# Altium integrated library TI Data Converters Analog to Digital Converter.IntLib: 2197 symbols (part 22 of 168)
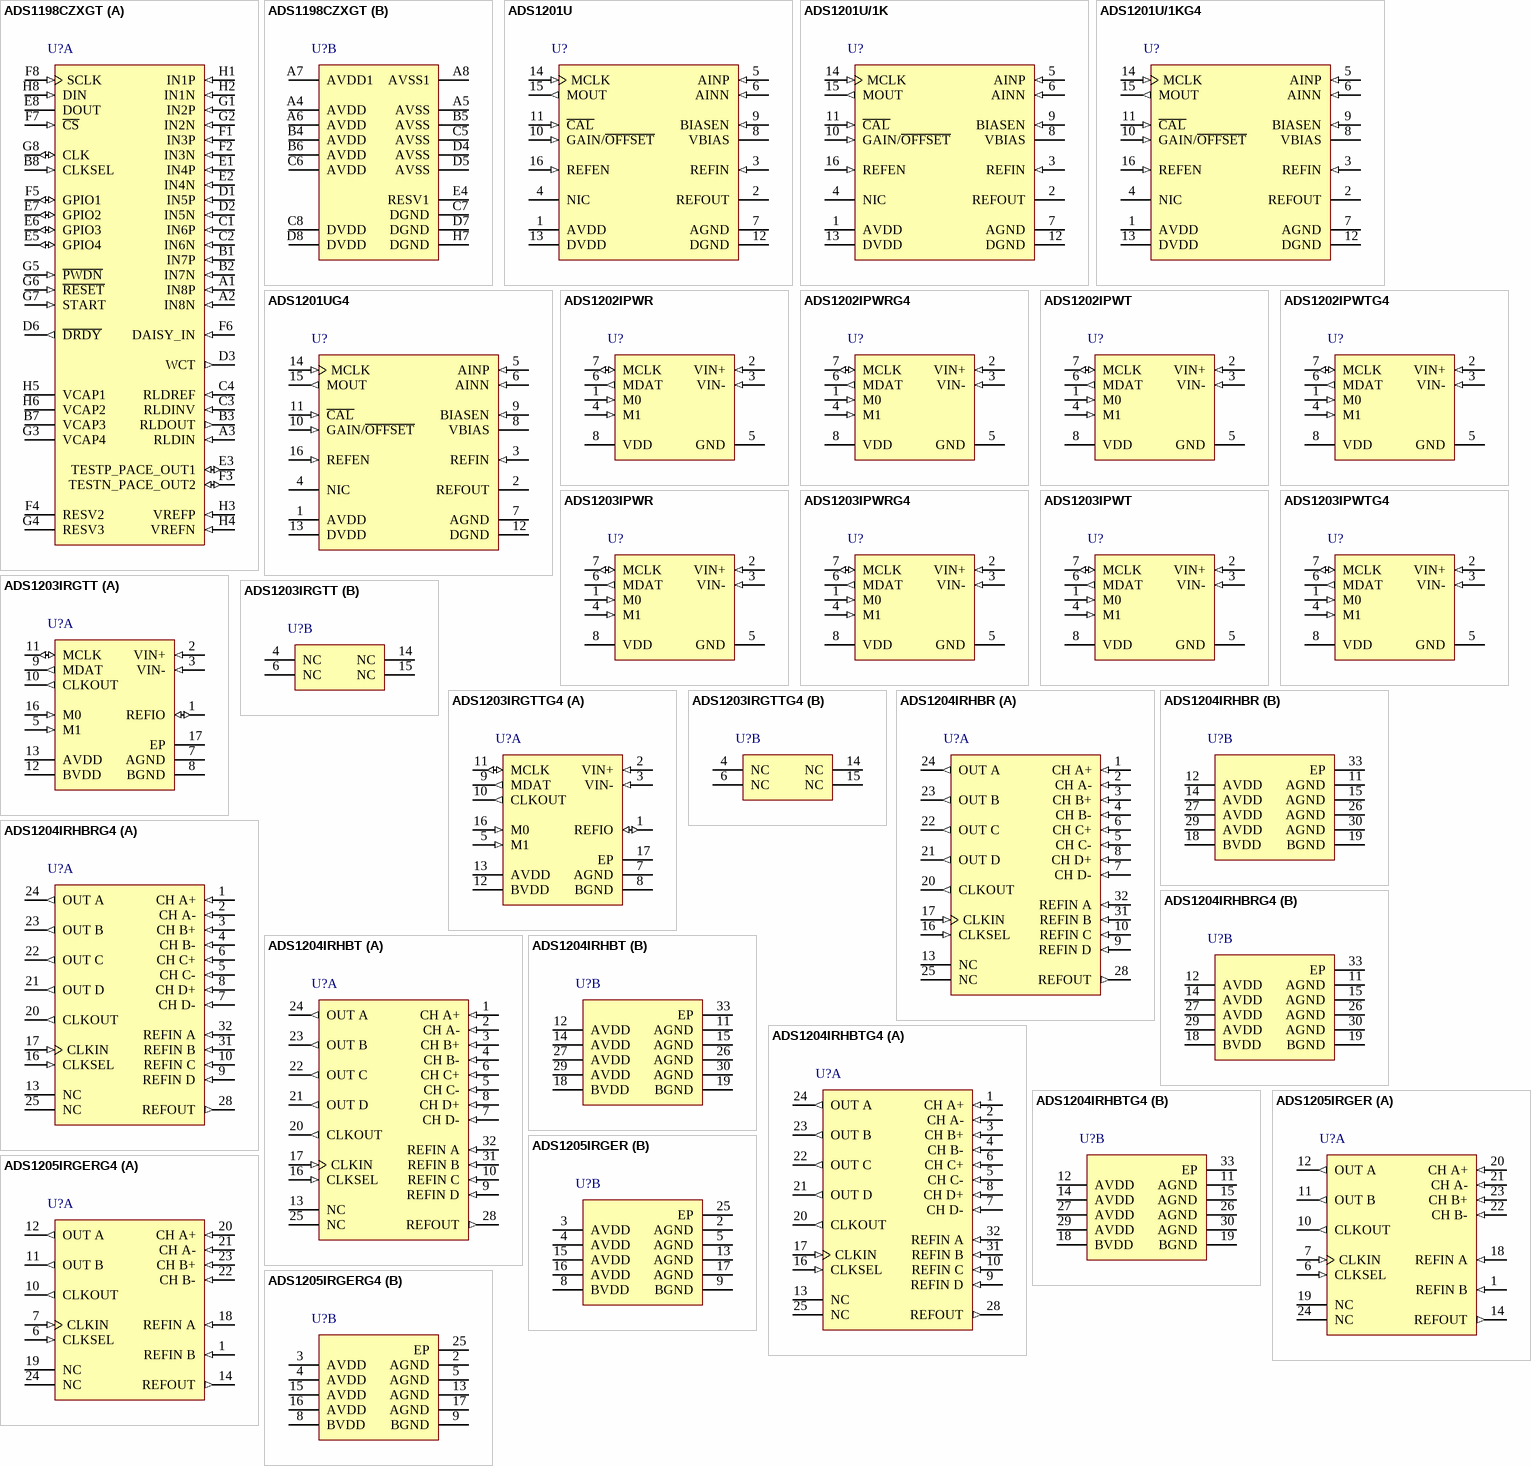
[diagram p147: symbols ADS1198CZXGT to ADS1205IRGERG4]

## ADS1203IPWR
designator U?
Current Shunt Delta-Sigma Modulator, 10 MHz CLK, + / - 250 mV Input, 16-Bit Resolution, -40 to 125 degC, 8-pin SOP (PW8), Green (RoHS & no Sb/Br); Manufacturer: Texas Instruments; PartNumber: ADS1203IPWR; # Input Channels: 1; Analog Voltage AV/DD(Max)(V): 5.5; Analog Voltage AV/DD(Min)(V): 4.5; Architecture: Delta-Sigma, Modulator; INL(Max)(+/-LSB): 4; Resolution(Bits): 16; Sample Rate (max)(SPS): 40k; SFDR(dB): 95; SINAD(dB): 85; SubFamily: Precision ADC (<=10MSPS); DatasheetVersion: SBAS318C; PackageVersion: 4040064-2/G, 02/2011; PackageReference: PW8; PackageDescription: 8-Pin Plastic Small Outline, Body 4.4 x 3 mm, Pitch 0.65 mm; Supplier 1: Digi-Key; Supplier Part Number 1: ADS8508IBDWR-ND; Supplier 2: Mouser; Supplier Part Number 2: 595-ADS8508IBDWR; Digital Supply(Max)(V): 5.5; Digital Supply(Min)(V): 4.5; Eco-Plan: Green (RoHS & no Sb/Br); SNR(dB): 85; Mounting Technology: Surface Mount; Code_JEDEC: MO-153; ComponentLink1Description: Manufacturer URL; ComponentLink1URL: http://www.ti.com/; ComponentLink2Description: Datasheet; ComponentLink2URL: http://www.ti.com/general/docs/lit/getliterature.tsp?genericPartNumber=ADS1203&fileType=pdf; ComponentLink3Description: Package Specification; ComponentLink3URL: http://www.ti.com/litv/pdf/mtss001d
footprint TI-PW8_N (SOP, 8-Leads, Body 4.4x3mm, Pitch 0.65mm, IPC Medium Density)
footprint TI-PW8_L (SOP, 8-Leads, Body 4.4x3mm, Pitch 0.65mm, IPC High Density)
footprint TI-PW8_M (SOP, 8-Leads, Body 4.4x3mm, Pitch 0.65mm, IPC Low Density)
pins: 1 M0 (in) "Mode input", 2 VIN+ (in) "Noninverting analog input", 3 VIN- (in) "Inverting analog input", 4 M1 (in) "Mode input", 5 GND (power) "Power supply ground", 6 MDAT (out) "Modulator data output", 7 MCLK (io) "Modulator clock input or output", 8 VDD (power) "Power supply: +5V nominal"

## ADS1203IPWRG4
designator U?
Current Shunt Delta-Sigma Modulator, 10 MHz CLK, + / - 250 mV Input, 16-Bit Resolution, -40 to 125 degC, 8-pin SOP (PW8), Green (RoHS & no Sb/Br); Manufacturer: Texas Instruments; PartNumber: ADS1203IPWRG4; # Input Channels: 1; Analog Voltage AV/DD(Max)(V): 5.5; Analog Voltage AV/DD(Min)(V): 4.5; Architecture: Delta-Sigma, Modulator; INL(Max)(+/-LSB): 4; Resolution(Bits): 16; Sample Rate (max)(SPS): 40k; SFDR(dB): 95; SINAD(dB): 85; SubFamily: Precision ADC (<=10MSPS); DatasheetVersion: SBAS318C; PackageVersion: 4040064-2/G, 02/2011; PackageReference: PW8; PackageDescription: 8-Pin Plastic Small Outline, Body 4.4 x 3 mm, Pitch 0.65 mm; Supplier 1: Digi-Key; Supplier Part Number 1: ADS8508IBDWRG4-ND; Supplier 2: Mouser; Supplier Part Number 2: 595-ADS8508IBDWRG4; Digital Supply(Max)(V): 5.5; Digital Supply(Min)(V): 4.5; Eco-Plan: Green (RoHS & no Sb/Br); SNR(dB): 85; Mounting Technology: Surface Mount; Code_JEDEC: MO-153; ComponentLink1Description: Manufacturer URL; ComponentLink1URL: http://www.ti.com/; ComponentLink2Description: Datasheet; ComponentLink2URL: http://www.ti.com/general/docs/lit/getliterature.tsp?genericPartNumber=ADS1203&fileType=pdf; ComponentLink3Description: Package Specification; ComponentLink3URL: http://www.ti.com/litv/pdf/mtss001d
footprint TI-PW8_N (SOP, 8-Leads, Body 4.4x3mm, Pitch 0.65mm, IPC Medium Density)
footprint TI-PW8_L (SOP, 8-Leads, Body 4.4x3mm, Pitch 0.65mm, IPC High Density)
footprint TI-PW8_M (SOP, 8-Leads, Body 4.4x3mm, Pitch 0.65mm, IPC Low Density)
pins: 1 M0 (in) "Mode input", 2 VIN+ (in) "Noninverting analog input", 3 VIN- (in) "Inverting analog input", 4 M1 (in) "Mode input", 5 GND (power) "Power supply ground", 6 MDAT (out) "Modulator data output", 7 MCLK (io) "Modulator clock input or output", 8 VDD (power) "Power supply: +5V nominal"

## ADS1203IPWT
designator U?
Current Shunt Delta-Sigma Modulator, 10 MHz CLK, + / - 250 mV Input, 16-Bit Resolution, -40 to 125 degC, 8-pin SOP (PW8), Green (RoHS & no Sb/Br); Manufacturer: Texas Instruments; PartNumber: ADS1203IPWT; # Input Channels: 1; Analog Voltage AV/DD(Max)(V): 5.5; Analog Voltage AV/DD(Min)(V): 4.5; Architecture: Delta-Sigma, Modulator; INL(Max)(+/-LSB): 4; Resolution(Bits): 16; Sample Rate (max)(SPS): 40k; SFDR(dB): 95; SINAD(dB): 85; SubFamily: Precision ADC (<=10MSPS); DatasheetVersion: SBAS318C; PackageVersion: 4040064-2/G, 02/2011; PackageReference: PW8; PackageDescription: 8-Pin Plastic Small Outline, Body 4.4 x 3 mm, Pitch 0.65 mm; Supplier 1: Digi-Key; Supplier Part Number 1: 296-18085-5-ND; Supplier 2: Newark; Supplier Part Number 2: 43K2924; Supplier 3: Mouser; Supplier Part Number 3: 595-ADS8509IBDW; Digital Supply(Max)(V): 5.5; Digital Supply(Min)(V): 4.5; Eco-Plan: Green (RoHS & no Sb/Br); SNR(dB): 85; Mounting Technology: Surface Mount; Code_JEDEC: MO-153; ComponentLink1Description: Manufacturer URL; ComponentLink1URL: http://www.ti.com/; ComponentLink2Description: Datasheet; ComponentLink2URL: http://www.ti.com/general/docs/lit/getliterature.tsp?genericPartNumber=ADS1203&fileType=pdf; ComponentLink3Description: Package Specification; ComponentLink3URL: http://www.ti.com/litv/pdf/mtss001d
footprint TI-PW8_N (SOP, 8-Leads, Body 4.4x3mm, Pitch 0.65mm, IPC Medium Density)
footprint TI-PW8_L (SOP, 8-Leads, Body 4.4x3mm, Pitch 0.65mm, IPC High Density)
footprint TI-PW8_M (SOP, 8-Leads, Body 4.4x3mm, Pitch 0.65mm, IPC Low Density)
pins: 1 M0 (in) "Mode input", 2 VIN+ (in) "Noninverting analog input", 3 VIN- (in) "Inverting analog input", 4 M1 (in) "Mode input", 5 GND (power) "Power supply ground", 6 MDAT (out) "Modulator data output", 7 MCLK (io) "Modulator clock input or output", 8 VDD (power) "Power supply: +5V nominal"

## ADS1203IPWTG4
designator U?
Current Shunt Delta-Sigma Modulator, 10 MHz CLK, + / - 250 mV Input, 16-Bit Resolution, -40 to 125 degC, 8-pin SOP (PW8), Green (RoHS & no Sb/Br); Manufacturer: Texas Instruments; PartNumber: ADS1203IPWTG4; # Input Channels: 1; Analog Voltage AV/DD(Max)(V): 5.5; Analog Voltage AV/DD(Min)(V): 4.5; Architecture: Delta-Sigma, Modulator; INL(Max)(+/-LSB): 4; Resolution(Bits): 16; Sample Rate (max)(SPS): 40k; SFDR(dB): 95; SINAD(dB): 85; SubFamily: Precision ADC (<=10MSPS); DatasheetVersion: SBAS318C; PackageVersion: 4040064-2/G, 02/2011; PackageReference: PW8; PackageDescription: 8-Pin Plastic Small Outline, Body 4.4 x 3 mm, Pitch 0.65 mm; Supplier 1: Digi-Key; Supplier Part Number 1: ADS8509IBDWG4-ND; Supplier 2: Farnell; Supplier Part Number 2: 1390677; Supplier 3: Newark; Supplier Part Number 3: 61M4842; Supplier 4: Mouser; Supplier Part Number 4: 595-ADS8509IBDWG4; Digital Supply(Max)(V): 5.5; Digital Supply(Min)(V): 4.5; Eco-Plan: Green (RoHS & no Sb/Br); SNR(dB): 85; Mounting Technology: Surface Mount; Code_JEDEC: MO-153; ComponentLink1Description: Manufacturer URL; ComponentLink1URL: http://www.ti.com/; ComponentLink2Description: Datasheet; ComponentLink2URL: http://www.ti.com/general/docs/lit/getliterature.tsp?genericPartNumber=ADS1203&fileType=pdf; ComponentLink3Description: Package Specification; ComponentLink3URL: http://www.ti.com/litv/pdf/mtss001d
footprint TI-PW8_N (SOP, 8-Leads, Body 4.4x3mm, Pitch 0.65mm, IPC Medium Density)
footprint TI-PW8_L (SOP, 8-Leads, Body 4.4x3mm, Pitch 0.65mm, IPC High Density)
footprint TI-PW8_M (SOP, 8-Leads, Body 4.4x3mm, Pitch 0.65mm, IPC Low Density)
pins: 1 M0 (in) "Mode input", 2 VIN+ (in) "Noninverting analog input", 3 VIN- (in) "Inverting analog input", 4 M1 (in) "Mode input", 5 GND (power) "Power supply ground", 6 MDAT (out) "Modulator data output", 7 MCLK (io) "Modulator clock input or output", 8 VDD (power) "Power supply: +5V nominal"

## ADS1203IRGTT
designator U?
Current Shunt Delta-Sigma Modulator, 10 MHz CLK, + / - 250 mV Input, 16-Bit Resolution, -40 to 125 degC, 16-pin QFN (RGT16), Green (RoHS & no Sb/Br); Manufacturer: Texas Instruments; PartNumber: ADS1203IRGTT; # Input Channels: 1; Analog Voltage AV/DD(Max)(V): 5.5; Analog Voltage AV/DD(Min)(V): 4.5; Architecture: Delta-Sigma, Modulator; ENOB(Bits): 16; INL(Max)(+/-LSB): 4; Sample Rate (max)(SPS): 40k; SFDR(dB): 95; SINAD(dB): 85; SubFamily: Precision ADC (<=10MSPS); DatasheetVersion: SBAS318C; PackageVersion: 4203495/H, 10/2011; PackageReference: RGT16-1650X1650TP; PackageDescription: 16-Pin Plastic Flat Pack, Body 3 x 3 mm, Pitch 0.5 mm; Supplier 1: Digi-Key; Supplier Part Number 1: ADS8509IBDWR-ND; Supplier 2: Mouser; Supplier Part Number 2: 595-ADS8509IBDWR; Digital Supply(Max)(V): 5.5; Digital Supply(Min)(V): 4.5; Eco-Plan: Green (RoHS & no Sb/Br); Resolution(Bits): 16; SNR(dB): 85; Mounting Technology: Surface Mount; Code_JEDEC: MO-220; ComponentLink1Description: Manufacturer URL; ComponentLink1URL: http://www.ti.com/; ComponentLink2Description: Datasheet; ComponentLink2URL: http://www.ti.com/general/docs/lit/getliterature.tsp?genericPartNumber=ADS1203&fileType=pdf; ComponentLink3Description: Package Specification; ComponentLink3URL: http://www.ti.com/litv/pdf/mpqf119g
footprint TI-RGT16-1650X1650TP_V (QFN, 16-Leads, Body 3x3mm, Pitch 0.5mm, Thermal Pad 1.65x1.65mm)
part A pins: 1 REFIO (io) "Reference voltage input/output", 2 VIN+ (in) "Noninverting analog input", 3 VIN- (in) "Inverting analog input", 5 M1 (in) "Mode input", 7 AGND (power) "Analog power-supply ground", 8 BGND (power) "Interface power-supply ground", 9 MDAT (out) "Modulator data output", 10 CLKOUT (out) "Modulator clock output (Mode 3 only)", 11 MCLK (io) "Modulator clock input or output", 12 BVDD (power) "Interface power supply", 13 AVDD (power) "Analog power supply", 16 M0 (in) "Mode input", 17 EP (power)
part B pins: 4 NC "Not connected", 6 NC "Not connected", 14 NC "Not connected", 15 NC "Not connected"

## ADS1203IRGTTG4
designator U?
Current Shunt Delta-Sigma Modulator, 10 MHz CLK, + / - 250 mV Input, 16-Bit Resolution, -40 to 125 degC, 16-pin QFN (RGT16), Green (RoHS & no Sb/Br); Manufacturer: Texas Instruments; PartNumber: ADS1203IRGTTG4; # Input Channels: 1; Analog Voltage AV/DD(Max)(V): 5.5; Analog Voltage AV/DD(Min)(V): 4.5; Architecture: Delta-Sigma, Modulator; ENOB(Bits): 16; INL(Max)(+/-LSB): 4; Sample Rate (max)(SPS): 40k; SFDR(dB): 95; SINAD(dB): 85; SubFamily: Precision ADC (<=10MSPS); DatasheetVersion: SBAS318C; PackageVersion: 4203495/H, 10/2011; PackageReference: RGT16-1650X1650TP; PackageDescription: 16-Pin Plastic Flat Pack, Body 3 x 3 mm, Pitch 0.5 mm; Supplier 1: Digi-Key; Supplier Part Number 1: ADS8509IBDWRG4-ND; Supplier 2: Mouser; Supplier Part Number 2: 595-ADS8509IBDWRG4; Digital Supply(Max)(V): 5.5; Digital Supply(Min)(V): 4.5; Eco-Plan: Green (RoHS & no Sb/Br); Resolution(Bits): 16; SNR(dB): 85; Mounting Technology: Surface Mount; Code_JEDEC: MO-220; ComponentLink1Description: Manufacturer URL; ComponentLink1URL: http://www.ti.com/; ComponentLink2Description: Datasheet; ComponentLink2URL: http://www.ti.com/general/docs/lit/getliterature.tsp?genericPartNumber=ADS1203&fileType=pdf; ComponentLink3Description: Package Specification; ComponentLink3URL: http://www.ti.com/litv/pdf/mpqf119g
footprint TI-RGT16-1650X1650TP_V (QFN, 16-Leads, Body 3x3mm, Pitch 0.5mm, Thermal Pad 1.65x1.65mm)
part A pins: 1 REFIO (io) "Reference voltage input/output", 2 VIN+ (in) "Noninverting analog input", 3 VIN- (in) "Inverting analog input", 5 M1 (in) "Mode input", 7 AGND (power) "Analog power-supply ground", 8 BGND (power) "Interface power-supply ground", 9 MDAT (out) "Modulator data output", 10 CLKOUT (out) "Modulator clock output (Mode 3 only)", 11 MCLK (io) "Modulator clock input or output", 12 BVDD (power) "Interface power supply", 13 AVDD (power) "Analog power supply", 16 M0 (in) "Mode input", 17 EP (power)
part B pins: 4 NC "Not connected", 6 NC "Not connected", 14 NC "Not connected", 15 NC "Not connected"

## ADS1204IRHBR
designator U?
Four Delta-Sigma Modulator, 10 MHz CLK, 0 to 5 V Input, 16-Bit Resolution, -40 to 105 degC, 32-pin QFN (RHB32), Green (RoHS & no Sb/Br); Manufacturer: Texas Instruments; PartNumber: ADS1204IRHBR; # Input Channels: 4; Analog Voltage AV/DD(Max)(V): 5.5; Analog Voltage AV/DD(Min)(V): 4.5; Architecture: Delta-Sigma, Modulator; Digital Supply(Min)(V): 2.7; ENOB(Bits): 14.5; INL(Max)(+/-LSB): 3; Resolution(Bits): 16; Sample Rate (max)(SPS): 40k; SFDR(dB): 100; SINAD(dB): 89; SubFamily: Precision ADC (<=10MSPS); DatasheetVersion: SBAS301C; PackageVersion: 4204326/D, 06/2011; PackageReference: RHB32-3150X3150TP; PackageDescription: 32-Pin Plastic Flat Pack, Body 5 x 5 mm, Pitch 0.5 mm; Supplier 1: Digi-Key; Supplier Part Number 1: 296-18087-5-ND; Supplier 2: Newark; Supplier Part Number 2: 43K2928; Supplier 3: Mouser; Supplier Part Number 3: 595-ADS8509IDW; Digital Supply(Max)(V): 5.5; Eco-Plan: Green (RoHS & no Sb/Br); SNR(dB): 89; Mounting Technology: Surface Mount; Code_JEDEC: MO-220; ComponentLink1Description: Manufacturer URL; ComponentLink1URL: http://www.ti.com/; ComponentLink2Description: Datasheet; ComponentLink2URL: http://www.ti.com/general/docs/lit/getliterature.tsp?genericPartNumber=ADS1204&fileType=pdf; ComponentLink3Description: Package Specification; ComponentLink3URL: http://www.ti.com/lit/ml/mpqf130c/mpqf130c.pdf
footprint TI-RHB32-3150X3150TP_V (QFN, 32-Leads, Body 5x5mm, Pitch 0.5mm, Thermal Pad 3.15x3.15mm)
part A pins: 1 CH A+ (in) "Analog input of channel A: noninverting input", 2 CH A- (in) "Analog input of channel A: inverting input", 3 CH B+ (in) "Analog input of channel B: noninverting input", 4 CH B- (in) "Analog input of channel B: inverting input", 5 CH C- (in) "Analog input of channel C: inverting input", 6 CH C+ (in) "Analog input of channel C: noninverting input", 7 CH D- (in) "Analog input of channel D: inverting input", 8 CH D+ (in) "Analog input of channel D: noninverting input", 9 REFIN D (in) "Reference voltage input of channel D: pin for external reference voltage", 10 REFIN C (in) "Reference voltage input of channel C: pin for external reference voltage", 13 NC "No connection; this pin is left unconnected", 16 CLKSEL (in) "Clock select between internal clock (CLKSEL = 1) or external clock (CLKSEL = 0)", 17 CLKIN (in) "External clock input", 20 CLKOUT (out) "System clock output", 21 OUT D (out) "Bit stream from channel D modulator", 22 OUT C (out) "Bit stream from channel C modulator", 23 OUT B (out) "Bit stream from channel B modulator", 24 OUT A (out) "Bit stream from channel A modulator", 25 NC "No connection; this pin is left unconnected", 28 REFOUT (out) "Reference voltage output: output pin of the internal reference source; nominal 2.5V", 31 REFIN B (in) "Reference voltage input of channel B: pin for external reference voltage", 32 REFIN A (in) "Reference voltage input of channel A: pin for external reference voltage"
part B pins: 11 AGND (power) "Analog ground", 12 AVDD (power) "Analog power supply; nominal 5V", 14 AVDD (power) "Analog power supply; nominal 5V", 15 AGND (power) "Analog ground", 18 BVDD (power) "Digital interface power supply; from 2.7V to 5.5V", 19 BGND (power) "Interface ground", 26 AGND (power) "Analog ground", 27 AVDD (power) "Analog power supply; nominal 5V", 29 AVDD (power) "Analog power supply; nominal 5V", 30 AGND (power) "Analog ground", 33 EP (power)

## ADS1204IRHBRG4
designator U?
Four Delta-Sigma Modulator, 10 MHz CLK, 0 to 5 V Input, 16-Bit Resolution, -40 to 105 degC, 32-pin QFN (RHB32), Green (RoHS & no Sb/Br); Manufacturer: Texas Instruments; PartNumber: ADS1204IRHBRG4; # Input Channels: 4; Analog Voltage AV/DD(Max)(V): 5.5; Analog Voltage AV/DD(Min)(V): 4.5; Architecture: Delta-Sigma, Modulator; Digital Supply(Min)(V): 2.7; ENOB(Bits): 14.5; INL(Max)(+/-LSB): 3; Resolution(Bits): 16; Sample Rate (max)(SPS): 40k; SFDR(dB): 100; SINAD(dB): 89; SubFamily: Precision ADC (<=10MSPS); DatasheetVersion: SBAS301C; PackageVersion: 4204326/D, 06/2011; PackageReference: RHB32-3150X3150TP; PackageDescription: 32-Pin Plastic Flat Pack, Body 5 x 5 mm, Pitch 0.5 mm; Supplier 1: Digi-Key; Supplier Part Number 1: ADS8509IDWG4-ND; Supplier 2: Mouser; Supplier Part Number 2: 595-ADS8509IDWG4; Digital Supply(Max)(V): 5.5; Eco-Plan: Green (RoHS & no Sb/Br); SNR(dB): 89; Mounting Technology: Surface Mount; Code_JEDEC: MO-220; ComponentLink1Description: Manufacturer URL; ComponentLink1URL: http://www.ti.com/; ComponentLink2Description: Datasheet; ComponentLink2URL: http://www.ti.com/general/docs/lit/getliterature.tsp?genericPartNumber=ADS1204&fileType=pdf; ComponentLink3Description: Package Specification; ComponentLink3URL: http://www.ti.com/lit/ml/mpqf130c/mpqf130c.pdf
footprint TI-RHB32-3150X3150TP_V (QFN, 32-Leads, Body 5x5mm, Pitch 0.5mm, Thermal Pad 3.15x3.15mm)
part A pins: 1 CH A+ (in) "Analog input of channel A: noninverting input", 2 CH A- (in) "Analog input of channel A: inverting input", 3 CH B+ (in) "Analog input of channel B: noninverting input", 4 CH B- (in) "Analog input of channel B: inverting input", 5 CH C- (in) "Analog input of channel C: inverting input", 6 CH C+ (in) "Analog input of channel C: noninverting input", 7 CH D- (in) "Analog input of channel D: inverting input", 8 CH D+ (in) "Analog input of channel D: noninverting input", 9 REFIN D (in) "Reference voltage input of channel D: pin for external reference voltage", 10 REFIN C (in) "Reference voltage input of channel C: pin for external reference voltage", 13 NC "No connection; this pin is left unconnected", 16 CLKSEL (in) "Clock select between internal clock (CLKSEL = 1) or external clock (CLKSEL = 0)", 17 CLKIN (in) "External clock input", 20 CLKOUT (out) "System clock output", 21 OUT D (out) "Bit stream from channel D modulator", 22 OUT C (out) "Bit stream from channel C modulator", 23 OUT B (out) "Bit stream from channel B modulator", 24 OUT A (out) "Bit stream from channel A modulator", 25 NC "No connection; this pin is left unconnected", 28 REFOUT (out) "Reference voltage output: output pin of the internal reference source; nominal 2.5V", 31 REFIN B (in) "Reference voltage input of channel B: pin for external reference voltage", 32 REFIN A (in) "Reference voltage input of channel A: pin for external reference voltage"
part B pins: 11 AGND (power) "Analog ground", 12 AVDD (power) "Analog power supply; nominal 5V", 14 AVDD (power) "Analog power supply; nominal 5V", 15 AGND (power) "Analog ground", 18 BVDD (power) "Digital interface power supply; from 2.7V to 5.5V", 19 BGND (power) "Interface ground", 26 AGND (power) "Analog ground", 27 AVDD (power) "Analog power supply; nominal 5V", 29 AVDD (power) "Analog power supply; nominal 5V", 30 AGND (power) "Analog ground", 33 EP (power)

## ADS1204IRHBT
designator U?
Four Delta-Sigma Modulator, 10 MHz CLK, 0 to 5 V Input, 16-Bit Resolution, -40 to 105 degC, 32-pin QFN (RHB32), Green (RoHS & no Sb/Br); Manufacturer: Texas Instruments; PartNumber: ADS1204IRHBT; # Input Channels: 4; Analog Voltage AV/DD(Max)(V): 5.5; Analog Voltage AV/DD(Min)(V): 4.5; Architecture: Delta-Sigma, Modulator; Digital Supply(Min)(V): 2.7; ENOB(Bits): 14.5; INL(Max)(+/-LSB): 3; Resolution(Bits): 16; Sample Rate (max)(SPS): 40k; SFDR(dB): 100; SINAD(dB): 89; SubFamily: Precision ADC (<=10MSPS); DatasheetVersion: SBAS301C; PackageVersion: 4204326/D, 06/2011; PackageReference: RHB32-3150X3150TP; PackageDescription: 32-Pin Plastic Flat Pack, Body 5 x 5 mm, Pitch 0.5 mm; Supplier 1: Digi-Key; Supplier Part Number 1: ADS8509IDWR-ND; Supplier 2: Newark; Supplier Part Number 2: 43K2929; Supplier 3: Mouser; Supplier Part Number 3: 595-ADS8509IDWR; Digital Supply(Max)(V): 5.5; Eco-Plan: Green (RoHS & no Sb/Br); SNR(dB): 89; Mounting Technology: Surface Mount; Code_JEDEC: MO-220; ComponentLink1Description: Manufacturer URL; ComponentLink1URL: http://www.ti.com/; ComponentLink2Description: Datasheet; ComponentLink2URL: http://www.ti.com/general/docs/lit/getliterature.tsp?genericPartNumber=ADS1204&fileType=pdf; ComponentLink3Description: Package Specification; ComponentLink3URL: http://www.ti.com/lit/ml/mpqf130c/mpqf130c.pdf
footprint TI-RHB32-3150X3150TP_V (QFN, 32-Leads, Body 5x5mm, Pitch 0.5mm, Thermal Pad 3.15x3.15mm)
part A pins: 1 CH A+ (in) "Analog input of channel A: noninverting input", 2 CH A- (in) "Analog input of channel A: inverting input", 3 CH B+ (in) "Analog input of channel B: noninverting input", 4 CH B- (in) "Analog input of channel B: inverting input", 5 CH C- (in) "Analog input of channel C: inverting input", 6 CH C+ (in) "Analog input of channel C: noninverting input", 7 CH D- (in) "Analog input of channel D: inverting input", 8 CH D+ (in) "Analog input of channel D: noninverting input", 9 REFIN D (in) "Reference voltage input of channel D: pin for external reference voltage", 10 REFIN C (in) "Reference voltage input of channel C: pin for external reference voltage", 13 NC "No connection; this pin is left unconnected", 16 CLKSEL (in) "Clock select between internal clock (CLKSEL = 1) or external clock (CLKSEL = 0)", 17 CLKIN (in) "External clock input", 20 CLKOUT (out) "System clock output", 21 OUT D (out) "Bit stream from channel D modulator", 22 OUT C (out) "Bit stream from channel C modulator", 23 OUT B (out) "Bit stream from channel B modulator", 24 OUT A (out) "Bit stream from channel A modulator", 25 NC "No connection; this pin is left unconnected", 28 REFOUT (out) "Reference voltage output: output pin of the internal reference source; nominal 2.5V", 31 REFIN B (in) "Reference voltage input of channel B: pin for external reference voltage", 32 REFIN A (in) "Reference voltage input of channel A: pin for external reference voltage"
part B pins: 11 AGND (power) "Analog ground", 12 AVDD (power) "Analog power supply; nominal 5V", 14 AVDD (power) "Analog power supply; nominal 5V", 15 AGND (power) "Analog ground", 18 BVDD (power) "Digital interface power supply; from 2.7V to 5.5V", 19 BGND (power) "Interface ground", 26 AGND (power) "Analog ground", 27 AVDD (power) "Analog power supply; nominal 5V", 29 AVDD (power) "Analog power supply; nominal 5V", 30 AGND (power) "Analog ground", 33 EP (power)

## ADS1204IRHBTG4
designator U?
Four Delta-Sigma Modulator, 10 MHz CLK, 0 to 5 V Input, 16-Bit Resolution, -40 to 105 degC, 32-pin QFN (RHB32), Green (RoHS & no Sb/Br); Manufacturer: Texas Instruments; PartNumber: ADS1204IRHBTG4; # Input Channels: 4; Analog Voltage AV/DD(Max)(V): 5.5; Analog Voltage AV/DD(Min)(V): 4.5; Architecture: Delta-Sigma, Modulator; Digital Supply(Min)(V): 2.7; ENOB(Bits): 14.5; INL(Max)(+/-LSB): 3; Resolution(Bits): 16; Sample Rate (max)(SPS): 40k; SFDR(dB): 100; SINAD(dB): 89; SubFamily: Precision ADC (<=10MSPS); DatasheetVersion: SBAS301C; PackageVersion: 4204326/D, 06/2011; PackageReference: RHB32-3150X3150TP; PackageDescription: 32-Pin Plastic Flat Pack, Body 5 x 5 mm, Pitch 0.5 mm; Supplier 1: Digi-Key; Supplier Part Number 1: ADS8509IDWRG4-ND; Supplier 2: Newark; Supplier Part Number 2: 60K8832; Supplier 3: Mouser; Supplier Part Number 3: 595-ADS8509IDWRG4; Digital Supply(Max)(V): 5.5; Eco-Plan: Green (RoHS & no Sb/Br); SNR(dB): 89; Mounting Technology: Surface Mount; Code_JEDEC: MO-220; ComponentLink1Description: Manufacturer URL; ComponentLink1URL: http://www.ti.com/; ComponentLink2Description: Datasheet; ComponentLink2URL: http://www.ti.com/general/docs/lit/getliterature.tsp?genericPartNumber=ADS1204&fileType=pdf; ComponentLink3Description: Package Specification; ComponentLink3URL: http://www.ti.com/lit/ml/mpqf130c/mpqf130c.pdf
footprint TI-RHB32-3150X3150TP_V (QFN, 32-Leads, Body 5x5mm, Pitch 0.5mm, Thermal Pad 3.15x3.15mm)
part A pins: 1 CH A+ (in) "Analog input of channel A: noninverting input", 2 CH A- (in) "Analog input of channel A: inverting input", 3 CH B+ (in) "Analog input of channel B: noninverting input", 4 CH B- (in) "Analog input of channel B: inverting input", 5 CH C- (in) "Analog input of channel C: inverting input", 6 CH C+ (in) "Analog input of channel C: noninverting input", 7 CH D- (in) "Analog input of channel D: inverting input", 8 CH D+ (in) "Analog input of channel D: noninverting input", 9 REFIN D (in) "Reference voltage input of channel D: pin for external reference voltage", 10 REFIN C (in) "Reference voltage input of channel C: pin for external reference voltage", 13 NC "No connection; this pin is left unconnected", 16 CLKSEL (in) "Clock select between internal clock (CLKSEL = 1) or external clock (CLKSEL = 0)", 17 CLKIN (in) "External clock input", 20 CLKOUT (out) "System clock output", 21 OUT D (out) "Bit stream from channel D modulator", 22 OUT C (out) "Bit stream from channel C modulator", 23 OUT B (out) "Bit stream from channel B modulator", 24 OUT A (out) "Bit stream from channel A modulator", 25 NC "No connection; this pin is left unconnected", 28 REFOUT (out) "Reference voltage output: output pin of the internal reference source; nominal 2.5V", 31 REFIN B (in) "Reference voltage input of channel B: pin for external reference voltage", 32 REFIN A (in) "Reference voltage input of channel A: pin for external reference voltage"
part B pins: 11 AGND (power) "Analog ground", 12 AVDD (power) "Analog power supply; nominal 5V", 14 AVDD (power) "Analog power supply; nominal 5V", 15 AGND (power) "Analog ground", 18 BVDD (power) "Digital interface power supply; from 2.7V to 5.5V", 19 BGND (power) "Interface ground", 26 AGND (power) "Analog ground", 27 AVDD (power) "Analog power supply; nominal 5V", 29 AVDD (power) "Analog power supply; nominal 5V", 30 AGND (power) "Analog ground", 33 EP (power)

## ADS1205IRGER
designator U?
Two 1-Bit, 10 MHz, 2nd-Order, Delta-Sigma Modulator ADC, -40 to 85 degC, 24-pin QFN (RGE24), Green (RoHS & no Sb/Br); Manufacturer: Texas Instruments; PartNumber: ADS1205IRGER; # Input Channels: 2; Analog Voltage AV/DD(Max)(V): 5.5; Analog Voltage AV/DD(Min)(V): 4.5; Architecture: Delta-Sigma, Modulator; Digital Supply(Min)(V): 2.7; ENOB(Bits): 14.5; INL(Max)(+/-LSB): 3; Resolution(Bits): 16; Sample Rate (max)(SPS): 40k; SFDR(dB): 98; SINAD(dB): 88.2; SNR(dB): 88.9; SubFamily: Precision ADC (<=10MSPS); DatasheetVersion: SBAS312B; PackageVersion: 4204104/G, 07/2011; PackageReference: RGE24-2450X2450TP-0407; PackageDescription: 24-Pin Plastic Flat Pack, Body 4 x 4 mm, Pitch 0.5 mm; Supplier 1: Digi-Key; Supplier Part Number 1: 296-18138-2-ND; Supplier 2: Digi-Key; Supplier Part Number 2: 296-18138-1-ND; Supplier 3: Digi-Key; Supplier Part Number 3: 296-18138-6-ND; Supplier 4: Mouser; Supplier Part Number 4: 595-TLC1543QDWREP; Digital Supply(Max)(V): 5.5; Eco-Plan: Green (RoHS & no Sb/Br); Mounting Technology: Surface Mount; Code_JEDEC: MO-220; ComponentLink1Description: Manufacturer URL; ComponentLink1URL: http://www.ti.com/; ComponentLink2Description: Datasheet; ComponentLink2URL: http://www.ti.com/general/docs/lit/getliterature.tsp?genericPartNumber=ADS1205&fileType=pdf; ComponentLink3Description: Package Specification; ComponentLink3URL: http://www.ti.com/litv/pdf/mpqf124f
footprint TI-RGE24-2450X2450TP-0407_V (QFN, 24-Leads, Body 4x4mm, Pitch 0.5mm, Thermal Pad 2.45x2.45mm, TI Recommended)
part A pins: 1 REFIN B (in) "Reference voltage input of channel B: pin for external reference voltage", 6 CLKSEL (in) "Clock select between internal clock (CLKSEL = 1) or external clock (CLKSEL = 0)", 7 CLKIN (in) "External clock input", 10 CLKOUT (out) "System clock output", 11 OUT B (out) "Bit stream from channel B modulator", 12 OUT A (out) "Bit stream from channel A modulator", 14 REFOUT (out) "Reference voltage output: output pin of the internal reference source; nominal 2.5V", 18 REFIN A (in) "Reference voltage input of channel A: pin for external reference voltage", 19 NC "No connection; this pin is left unconnected", 20 CH A+ (in) "Analog input of channel A: noninverting input", 21 CH A- (in) "Analog input of channel A: inverting input", 22 CH B- (in) "Analog input of channel B: inverting input", 23 CH B+ (in) "Analog input of channel B: noninverting input", 24 NC "No connection; this pin is left unconnected"
part B pins: 2 AGND (power) "Analog ground", 3 AVDD (power) "Analog power supply; nominal 5V", 4 AVDD (power) "Analog power supply; nominal 5V", 5 AGND (power) "Analog ground", 8 BVDD (power) "Digital interface power supply; from 2.7V to 5.5V", 9 BGND (power) "Interface ground", 13 AGND (power) "Analog ground", 15 AVDD (power) "Analog power supply; nominal 5V", 16 AVDD (power) "Analog power supply; nominal 5V", 17 AGND (power) "Analog ground", 25 EP "Exposed Pad"

## ADS1205IRGERG4
designator U?
Two 1-Bit, 10 MHz, 2nd-Order, Delta-Sigma Modulator ADC, -40 to 85 degC, 24-pin QFN (RGE24), Green (RoHS & no Sb/Br); Manufacturer: Texas Instruments; PartNumber: ADS1205IRGERG4; # Input Channels: 2; Analog Voltage AV/DD(Max)(V): 5.5; Analog Voltage AV/DD(Min)(V): 4.5; Architecture: Delta-Sigma, Modulator; Digital Supply(Min)(V): 2.7; ENOB(Bits): 14.5; INL(Max)(+/-LSB): 3; Resolution(Bits): 16; Sample Rate (max)(SPS): 40k; SFDR(dB): 98; SINAD(dB): 88.2; SNR(dB): 88.9; SubFamily: Precision ADC (<=10MSPS); DatasheetVersion: SBAS312B; PackageVersion: 4204104/G, 07/2011; PackageReference: RGE24-2450X2450TP-0407; PackageDescription: 24-Pin Plastic Flat Pack, Body 4 x 4 mm, Pitch 0.5 mm; Supplier 1: Newark; Supplier Part Number 1: 46M1597; Supplier 2: Mouser; Supplier Part Number 2: 595-V62/04647-01XE; Digital Supply(Max)(V): 5.5; Eco-Plan: Green (RoHS & no Sb/Br); Mounting Technology: Surface Mount; Code_JEDEC: MO-220; ComponentLink1Description: Manufacturer URL; ComponentLink1URL: http://www.ti.com/; ComponentLink2Description: Datasheet; ComponentLink2URL: http://www.ti.com/general/docs/lit/getliterature.tsp?genericPartNumber=ADS1205&fileType=pdf; ComponentLink3Description: Package Specification; ComponentLink3URL: http://www.ti.com/litv/pdf/mpqf124f
footprint TI-RGE24-2450X2450TP-0407_V (QFN, 24-Leads, Body 4x4mm, Pitch 0.5mm, Thermal Pad 2.45x2.45mm, TI Recommended)
part A pins: 1 REFIN B (in) "Reference voltage input of channel B: pin for external reference voltage", 6 CLKSEL (in) "Clock select between internal clock (CLKSEL = 1) or external clock (CLKSEL = 0)", 7 CLKIN (in) "External clock input", 10 CLKOUT (out) "System clock output", 11 OUT B (out) "Bit stream from channel B modulator", 12 OUT A (out) "Bit stream from channel A modulator", 14 REFOUT (out) "Reference voltage output: output pin of the internal reference source; nominal 2.5V", 18 REFIN A (in) "Reference voltage input of channel A: pin for external reference voltage", 19 NC "No connection; this pin is left unconnected", 20 CH A+ (in) "Analog input of channel A: noninverting input", 21 CH A- (in) "Analog input of channel A: inverting input", 22 CH B- (in) "Analog input of channel B: inverting input", 23 CH B+ (in) "Analog input of channel B: noninverting input", 24 NC "No connection; this pin is left unconnected"
part B pins: 2 AGND (power) "Analog ground", 3 AVDD (power) "Analog power supply; nominal 5V", 4 AVDD (power) "Analog power supply; nominal 5V", 5 AGND (power) "Analog ground", 8 BVDD (power) "Digital interface power supply; from 2.7V to 5.5V", 9 BGND (power) "Interface ground", 13 AGND (power) "Analog ground", 15 AVDD (power) "Analog power supply; nominal 5V", 16 AVDD (power) "Analog power supply; nominal 5V", 17 AGND (power) "Analog ground", 25 EP "Exposed Pad"

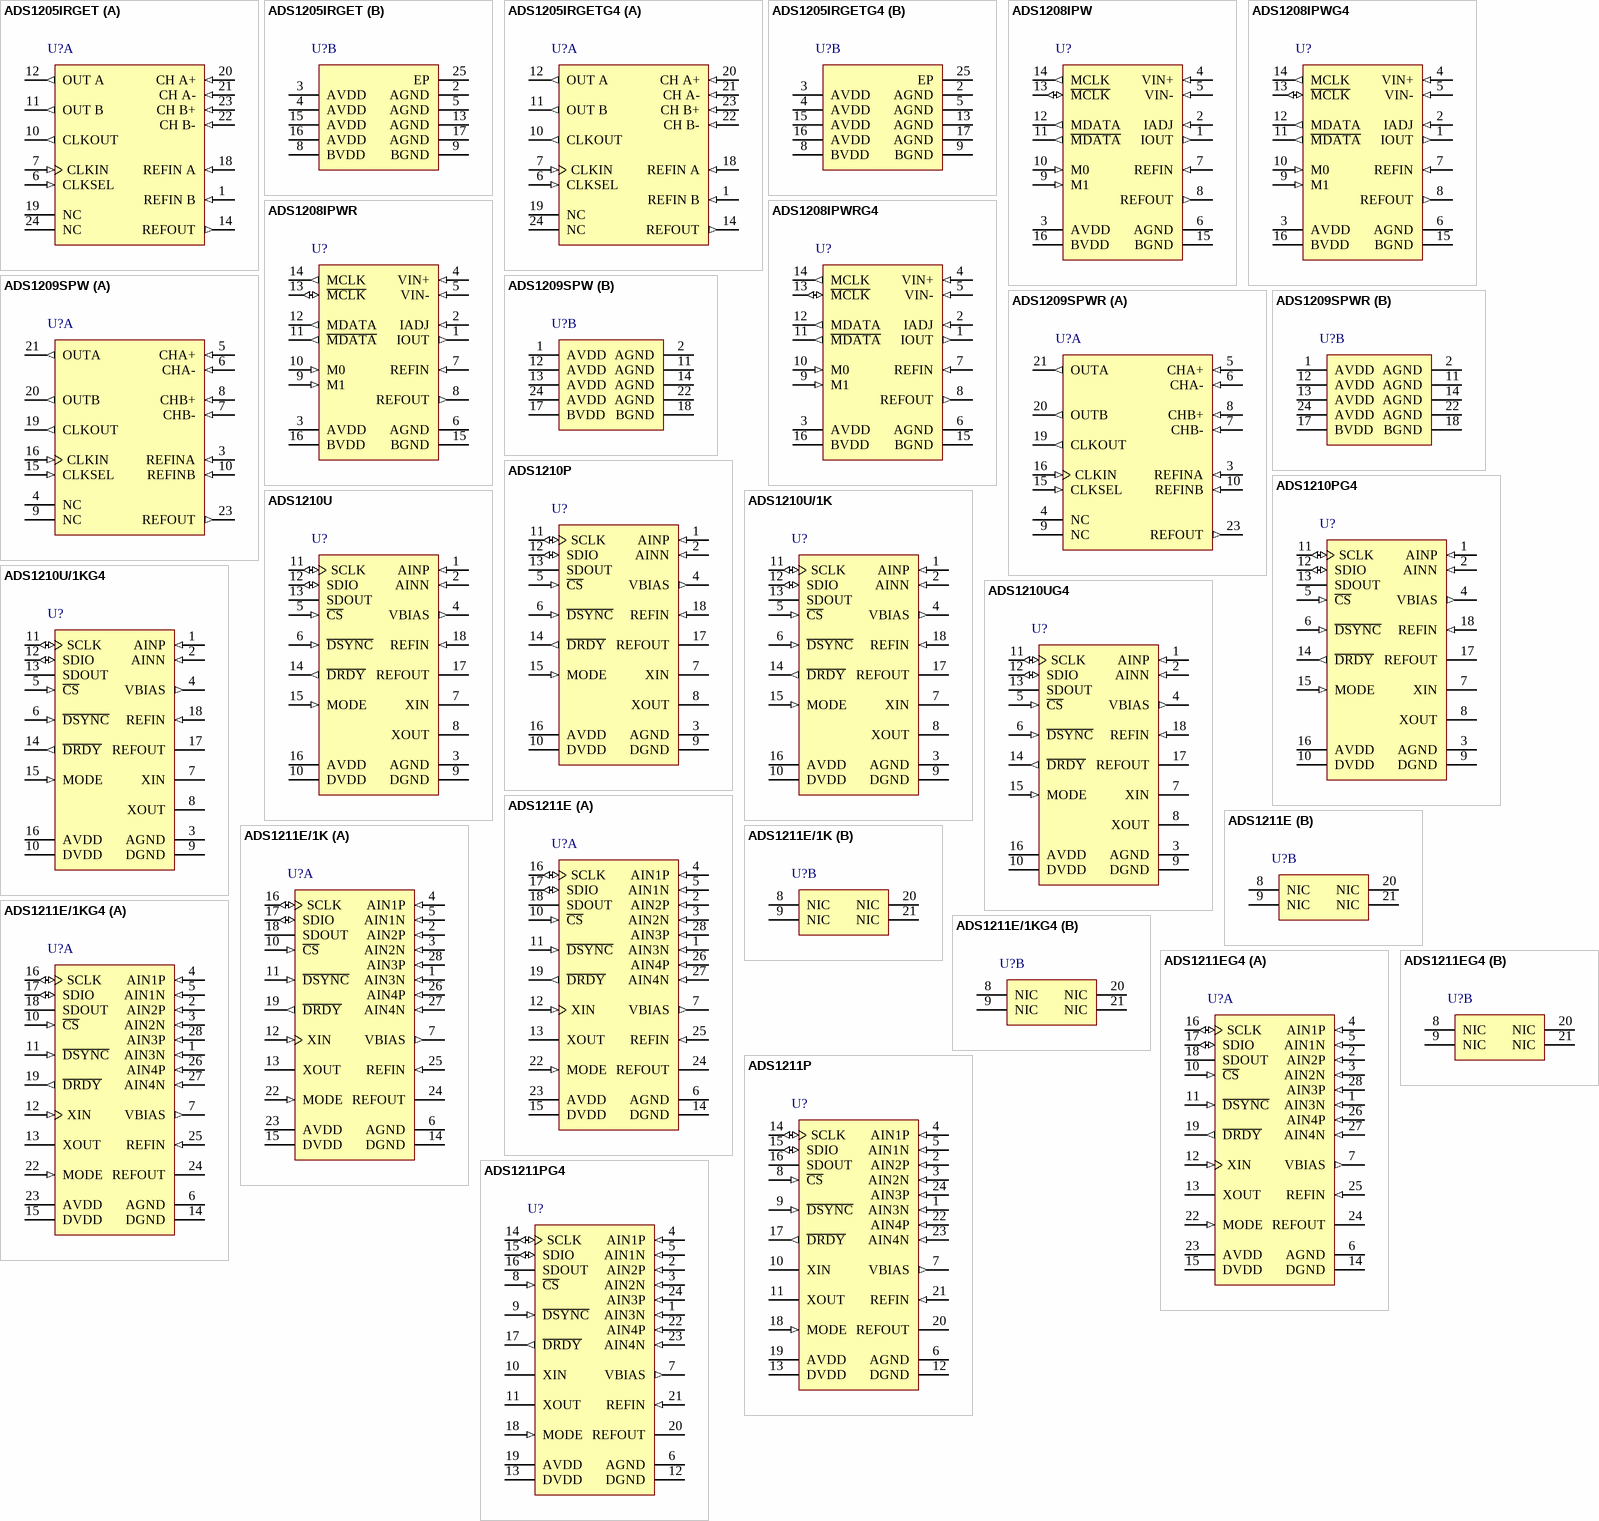
[diagram p17: symbols ADS1205IRGET to ADS1211PG4]

## ADS1205IRGET
designator U?
Two 1-Bit, 10 MHz, 2nd-Order, Delta-Sigma Modulator ADC, -40 to 85 degC, 24-pin QFN (RGE24), Green (RoHS & no Sb/Br); Manufacturer: Texas Instruments; PartNumber: ADS1205IRGET; # Input Channels: 2; Analog Voltage AV/DD(Max)(V): 5.5; Analog Voltage AV/DD(Min)(V): 4.5; Architecture: Delta-Sigma, Modulator; Digital Supply(Min)(V): 2.7; ENOB(Bits): 14.5; INL(Max)(+/-LSB): 3; Resolution(Bits): 16; Sample Rate (max)(SPS): 40k; SFDR(dB): 98; SINAD(dB): 88.2; SNR(dB): 88.9; SubFamily: Precision ADC (<=10MSPS); DatasheetVersion: SBAS312B; PackageVersion: 4204104/G, 07/2011; PackageReference: RGE24-2450X2450TP-0407; PackageDescription: 24-Pin Plastic Flat Pack, Body 4 x 4 mm, Pitch 0.5 mm; Supplier 1: Digi-Key; Supplier Part Number 1: 296-12502-5-ND; Supplier 2: Newark; Supplier Part Number 2: 76C8380; Supplier 3: Mouser; Supplier Part Number 3: 595-TLV2556IDW; Digital Supply(Max)(V): 5.5; Eco-Plan: Green (RoHS & no Sb/Br); Mounting Technology: Surface Mount; Code_JEDEC: MO-220; ComponentLink1Description: Manufacturer URL; ComponentLink1URL: http://www.ti.com/; ComponentLink2Description: Datasheet; ComponentLink2URL: http://www.ti.com/general/docs/lit/getliterature.tsp?genericPartNumber=ADS1205&fileType=pdf; ComponentLink3Description: Package Specification; ComponentLink3URL: http://www.ti.com/litv/pdf/mpqf124f
footprint TI-RGE24-2450X2450TP-0407_V (QFN, 24-Leads, Body 4x4mm, Pitch 0.5mm, Thermal Pad 2.45x2.45mm, TI Recommended)
part A pins: 1 REFIN B (in) "Reference voltage input of channel B: pin for external reference voltage", 6 CLKSEL (in) "Clock select between internal clock (CLKSEL = 1) or external clock (CLKSEL = 0)", 7 CLKIN (in) "External clock input", 10 CLKOUT (out) "System clock output", 11 OUT B (out) "Bit stream from channel B modulator", 12 OUT A (out) "Bit stream from channel A modulator", 14 REFOUT (out) "Reference voltage output: output pin of the internal reference source; nominal 2.5V", 18 REFIN A (in) "Reference voltage input of channel A: pin for external reference voltage", 19 NC "No connection; this pin is left unconnected", 20 CH A+ (in) "Analog input of channel A: noninverting input", 21 CH A- (in) "Analog input of channel A: inverting input", 22 CH B- (in) "Analog input of channel B: inverting input", 23 CH B+ (in) "Analog input of channel B: noninverting input", 24 NC "No connection; this pin is left unconnected"
part B pins: 2 AGND (power) "Analog ground", 3 AVDD (power) "Analog power supply; nominal 5V", 4 AVDD (power) "Analog power supply; nominal 5V", 5 AGND (power) "Analog ground", 8 BVDD (power) "Digital interface power supply; from 2.7V to 5.5V", 9 BGND (power) "Interface ground", 13 AGND (power) "Analog ground", 15 AVDD (power) "Analog power supply; nominal 5V", 16 AVDD (power) "Analog power supply; nominal 5V", 17 AGND (power) "Analog ground", 25 EP "Exposed Pad"

## ADS1205IRGETG4
designator U?
Two 1-Bit, 10 MHz, 2nd-Order, Delta-Sigma Modulator ADC, -40 to 85 degC, 24-pin QFN (RGE24), Green (RoHS & no Sb/Br); Manufacturer: Texas Instruments; PartNumber: ADS1205IRGETG4; # Input Channels: 2; Analog Voltage AV/DD(Max)(V): 5.5; Analog Voltage AV/DD(Min)(V): 4.5; Architecture: Delta-Sigma, Modulator; Digital Supply(Min)(V): 2.7; ENOB(Bits): 14.5; INL(Max)(+/-LSB): 3; Resolution(Bits): 16; Sample Rate (max)(SPS): 40k; SFDR(dB): 98; SINAD(dB): 88.2; SNR(dB): 88.9; SubFamily: Precision ADC (<=10MSPS); DatasheetVersion: SBAS312B; PackageVersion: 4204104/G, 07/2011; PackageReference: RGE24-2450X2450TP-0407; PackageDescription: 24-Pin Plastic Flat Pack, Body 4 x 4 mm, Pitch 0.5 mm; Supplier 1: Digi-Key; Supplier Part Number 1: TLV2556IDWG4-ND; Supplier 2: Mouser; Supplier Part Number 2: 595-TLV2556IDWG4; Digital Supply(Max)(V): 5.5; Eco-Plan: Green (RoHS & no Sb/Br); Mounting Technology: Surface Mount; Code_JEDEC: MO-220; ComponentLink1Description: Manufacturer URL; ComponentLink1URL: http://www.ti.com/; ComponentLink2Description: Datasheet; ComponentLink2URL: http://www.ti.com/general/docs/lit/getliterature.tsp?genericPartNumber=ADS1205&fileType=pdf; ComponentLink3Description: Package Specification; ComponentLink3URL: http://www.ti.com/litv/pdf/mpqf124f
footprint TI-RGE24-2450X2450TP-0407_V (QFN, 24-Leads, Body 4x4mm, Pitch 0.5mm, Thermal Pad 2.45x2.45mm, TI Recommended)
part A pins: 1 REFIN B (in) "Reference voltage input of channel B: pin for external reference voltage", 6 CLKSEL (in) "Clock select between internal clock (CLKSEL = 1) or external clock (CLKSEL = 0)", 7 CLKIN (in) "External clock input", 10 CLKOUT (out) "System clock output", 11 OUT B (out) "Bit stream from channel B modulator", 12 OUT A (out) "Bit stream from channel A modulator", 14 REFOUT (out) "Reference voltage output: output pin of the internal reference source; nominal 2.5V", 18 REFIN A (in) "Reference voltage input of channel A: pin for external reference voltage", 19 NC "No connection; this pin is left unconnected", 20 CH A+ (in) "Analog input of channel A: noninverting input", 21 CH A- (in) "Analog input of channel A: inverting input", 22 CH B- (in) "Analog input of channel B: inverting input", 23 CH B+ (in) "Analog input of channel B: noninverting input", 24 NC "No connection; this pin is left unconnected"
part B pins: 2 AGND (power) "Analog ground", 3 AVDD (power) "Analog power supply; nominal 5V", 4 AVDD (power) "Analog power supply; nominal 5V", 5 AGND (power) "Analog ground", 8 BVDD (power) "Digital interface power supply; from 2.7V to 5.5V", 9 BGND (power) "Interface ground", 13 AGND (power) "Analog ground", 15 AVDD (power) "Analog power supply; nominal 5V", 16 AVDD (power) "Analog power supply; nominal 5V", 17 AGND (power) "Analog ground", 25 EP "Exposed Pad"

## ADS1208IPW
designator U?
10 MHz Modulator with Built in Current Excitation for Hall Sensor, -40 to 85 degC, 16-pin SOP (PW16), Green (RoHS & no Sb/Br); Manufacturer: Texas Instruments; PartNumber: ADS1208IPW; # Input Channels: 1; Analog Voltage AV/DD(Max)(V): 5.5; Analog Voltage AV/DD(Min)(V): 4.5; Architecture: Delta-Sigma, Modulator; Digital Supply(Min)(V): 2.7; INL(Max)(+/-LSB): 8; Resolution(Bits): 16; Sample Rate (max)(SPS): 40k; SFDR(dB): 93; SINAD(dB): 81.5; SNR(dB): 82; SubFamily: Precision ADC (<=10MSPS); DatasheetVersion: SBAS348A; PackageVersion: 4040064-4/G, 02/2011; PackageReference: PW16; PackageDescription: 16-Pin Plastic Small Outline, Body 5 x 4.4 mm, Pitch 0.65 mm; Supplier 1: Digi-Key; Supplier Part Number 1: TLV2556IDWR-ND; Supplier 2: Mouser; Supplier Part Number 2: 595-TLV2556IDWR; Digital Supply(Max)(V): 5.5; Eco-Plan: Green (RoHS & no Sb/Br); Mounting Technology: Surface Mount; Code_JEDEC: MO-153; ComponentLink1Description: Manufacturer URL; ComponentLink1URL: http://www.ti.com/; ComponentLink2Description: Datasheet; ComponentLink2URL: http://www.ti.com/general/docs/lit/getliterature.tsp?genericPartNumber=ADS1208&fileType=pdf; ComponentLink3Description: Package Specification; ComponentLink3URL: http://www.ti.com/lit/ml/mpds361/mpds361.pdf
footprint TI-PW16_N (SOP, 16-Leads, Body 5x4.4mm, Pitch 0.65mm, IPC Medium Density)
footprint TI-PW16_L (SOP, 16-Leads, Body 5x4.4mm, Pitch 0.65mm, IPC High Density)
footprint TI-PW16_M (SOP, 16-Leads, Body 5x4.4mm, Pitch 0.65mm, IPC Low Density)
pins: 1 IOUT (out) "Current output for sensor", 2 IADJ (in) "Output current adjustment", 3 AVDD (power) "Analog supply", 4 VIN+ (in) "Positive input", 5 VIN- (in) "Negative input", 6 AGND (power) "Analog ground", 7 REFIN (in) "Reference input", 8 REFOUT (out) "Reference output", 9 M1 (in) "Mode selection input", 10 M0 (in) "Mode selection input", 11 ~{MDATA} (out) "Inverted data output", 12 MDATA (out) "Noninverted data output", 13 ~{MCLK} (io) "Inverted clock output (Modes 0, 1); Clock input (Mode 3)", 14 MCLK (out) "Noninverted clock output", 15 BGND (power) "Digital interface ground", 16 BVDD (power) "Digital interface supply (2.7V to 5.5V)"

## ADS1208IPWG4
designator U?
10 MHz Modulator with Built in Current Excitation for Hall Sensor, -40 to 85 degC, 16-pin SOP (PW16), Green (RoHS & no Sb/Br); Manufacturer: Texas Instruments; PartNumber: ADS1208IPWG4; # Input Channels: 1; Analog Voltage AV/DD(Max)(V): 5.5; Analog Voltage AV/DD(Min)(V): 4.5; Architecture: Delta-Sigma, Modulator; Digital Supply(Min)(V): 2.7; INL(Max)(+/-LSB): 8; Resolution(Bits): 16; Sample Rate (max)(SPS): 40k; SFDR(dB): 93; SINAD(dB): 81.5; SNR(dB): 82; SubFamily: Precision ADC (<=10MSPS); DatasheetVersion: SBAS348A; PackageVersion: 4040064-4/G, 02/2011; PackageReference: PW16; PackageDescription: 16-Pin Plastic Small Outline, Body 5 x 4.4 mm, Pitch 0.65 mm; Supplier 1: Digi-Key; Supplier Part Number 1: TLV2556IDWRG4-ND; Supplier 2: Mouser; Supplier Part Number 2: 595-TLV2556IDWRG4; Digital Supply(Max)(V): 5.5; Eco-Plan: Green (RoHS & no Sb/Br); Mounting Technology: Surface Mount; Code_JEDEC: MO-153; ComponentLink1Description: Manufacturer URL; ComponentLink1URL: http://www.ti.com/; ComponentLink2Description: Datasheet; ComponentLink2URL: http://www.ti.com/general/docs/lit/getliterature.tsp?genericPartNumber=ADS1208&fileType=pdf; ComponentLink3Description: Package Specification; ComponentLink3URL: http://www.ti.com/lit/ml/mpds361/mpds361.pdf
footprint TI-PW16_N (SOP, 16-Leads, Body 5x4.4mm, Pitch 0.65mm, IPC Medium Density)
footprint TI-PW16_L (SOP, 16-Leads, Body 5x4.4mm, Pitch 0.65mm, IPC High Density)
footprint TI-PW16_M (SOP, 16-Leads, Body 5x4.4mm, Pitch 0.65mm, IPC Low Density)
pins: 1 IOUT (out) "Current output for sensor", 2 IADJ (in) "Output current adjustment", 3 AVDD (power) "Analog supply", 4 VIN+ (in) "Positive input", 5 VIN- (in) "Negative input", 6 AGND (power) "Analog ground", 7 REFIN (in) "Reference input", 8 REFOUT (out) "Reference output", 9 M1 (in) "Mode selection input", 10 M0 (in) "Mode selection input", 11 ~{MDATA} (out) "Inverted data output", 12 MDATA (out) "Noninverted data output", 13 ~{MCLK} (io) "Inverted clock output (Modes 0, 1); Clock input (Mode 3)", 14 MCLK (out) "Noninverted clock output", 15 BGND (power) "Digital interface ground", 16 BVDD (power) "Digital interface supply (2.7V to 5.5V)"

## ADS1208IPWR
designator U?
10 MHz Modulator with Built in Current Excitation for Hall Sensor, -40 to 85 degC, 16-pin SOP (PW16), Green (RoHS & no Sb/Br); Manufacturer: Texas Instruments; PartNumber: ADS1208IPWR; # Input Channels: 1; Analog Voltage AV/DD(Max)(V): 5.5; Analog Voltage AV/DD(Min)(V): 4.5; Architecture: Delta-Sigma, Modulator; Digital Supply(Min)(V): 2.7; INL(Max)(+/-LSB): 8; Resolution(Bits): 16; Sample Rate (max)(SPS): 40k; SFDR(dB): 93; SINAD(dB): 81.5; SNR(dB): 82; SubFamily: Precision ADC (<=10MSPS); DatasheetVersion: SBAS348A; PackageVersion: 4040064-4/G, 02/2011; PackageReference: PW16; PackageDescription: 16-Pin Plastic Small Outline, Body 5 x 4.4 mm, Pitch 0.65 mm; Supplier 1: Digi-Key; Supplier Part Number 1: 296-10296-5-ND; Supplier 2: Newark; Supplier Part Number 2: 76C7330; Supplier 3: Mouser; Supplier Part Number 3: 595-TLC3574IDW; Digital Supply(Max)(V): 5.5; Eco-Plan: Green (RoHS & no Sb/Br); Mounting Technology: Surface Mount; Code_JEDEC: MO-153; ComponentLink1Description: Manufacturer URL; ComponentLink1URL: http://www.ti.com/; ComponentLink2Description: Datasheet; ComponentLink2URL: http://www.ti.com/general/docs/lit/getliterature.tsp?genericPartNumber=ADS1208&fileType=pdf; ComponentLink3Description: Package Specification; ComponentLink3URL: http://www.ti.com/lit/ml/mpds361/mpds361.pdf
footprint TI-PW16_N (SOP, 16-Leads, Body 5x4.4mm, Pitch 0.65mm, IPC Medium Density)
footprint TI-PW16_L (SOP, 16-Leads, Body 5x4.4mm, Pitch 0.65mm, IPC High Density)
footprint TI-PW16_M (SOP, 16-Leads, Body 5x4.4mm, Pitch 0.65mm, IPC Low Density)
pins: 1 IOUT (out) "Current output for sensor", 2 IADJ (in) "Output current adjustment", 3 AVDD (power) "Analog supply", 4 VIN+ (in) "Positive input", 5 VIN- (in) "Negative input", 6 AGND (power) "Analog ground", 7 REFIN (in) "Reference input", 8 REFOUT (out) "Reference output", 9 M1 (in) "Mode selection input", 10 M0 (in) "Mode selection input", 11 ~{MDATA} (out) "Inverted data output", 12 MDATA (out) "Noninverted data output", 13 ~{MCLK} (io) "Inverted clock output (Modes 0, 1); Clock input (Mode 3)", 14 MCLK (out) "Noninverted clock output", 15 BGND (power) "Digital interface ground", 16 BVDD (power) "Digital interface supply (2.7V to 5.5V)"

## ADS1208IPWRG4
designator U?
10 MHz Modulator with Built in Current Excitation for Hall Sensor, -40 to 85 degC, 16-pin SOP (PW16), Green (RoHS & no Sb/Br); Manufacturer: Texas Instruments; PartNumber: ADS1208IPWRG4; # Input Channels: 1; Analog Voltage AV/DD(Max)(V): 5.5; Analog Voltage AV/DD(Min)(V): 4.5; Architecture: Delta-Sigma, Modulator; Digital Supply(Min)(V): 2.7; INL(Max)(+/-LSB): 8; Resolution(Bits): 16; Sample Rate (max)(SPS): 40k; SFDR(dB): 93; SINAD(dB): 81.5; SNR(dB): 82; SubFamily: Precision ADC (<=10MSPS); DatasheetVersion: SBAS348A; PackageVersion: 4040064-4/G, 02/2011; PackageReference: PW16; PackageDescription: 16-Pin Plastic Small Outline, Body 5 x 4.4 mm, Pitch 0.65 mm; Supplier 1: Digi-Key; Supplier Part Number 1: TLC3574IDWG4-ND; Supplier 2: Mouser; Supplier Part Number 2: 595-TLC3574IDWG4; Digital Supply(Max)(V): 5.5; Eco-Plan: Green (RoHS & no Sb/Br); Mounting Technology: Surface Mount; Code_JEDEC: MO-153; ComponentLink1Description: Manufacturer URL; ComponentLink1URL: http://www.ti.com/; ComponentLink2Description: Datasheet; ComponentLink2URL: http://www.ti.com/general/docs/lit/getliterature.tsp?genericPartNumber=ADS1208&fileType=pdf; ComponentLink3Description: Package Specification; ComponentLink3URL: http://www.ti.com/lit/ml/mpds361/mpds361.pdf
footprint TI-PW16_N (SOP, 16-Leads, Body 5x4.4mm, Pitch 0.65mm, IPC Medium Density)
footprint TI-PW16_L (SOP, 16-Leads, Body 5x4.4mm, Pitch 0.65mm, IPC High Density)
footprint TI-PW16_M (SOP, 16-Leads, Body 5x4.4mm, Pitch 0.65mm, IPC Low Density)
pins: 1 IOUT (out) "Current output for sensor", 2 IADJ (in) "Output current adjustment", 3 AVDD (power) "Analog supply", 4 VIN+ (in) "Positive input", 5 VIN- (in) "Negative input", 6 AGND (power) "Analog ground", 7 REFIN (in) "Reference input", 8 REFOUT (out) "Reference output", 9 M1 (in) "Mode selection input", 10 M0 (in) "Mode selection input", 11 ~{MDATA} (out) "Inverted data output", 12 MDATA (out) "Noninverted data output", 13 ~{MCLK} (io) "Inverted clock output (Modes 0, 1); Clock input (Mode 3)", 14 MCLK (out) "Noninverted clock output", 15 BGND (power) "Digital interface ground", 16 BVDD (power) "Digital interface supply (2.7V to 5.5V)"

## ADS1209SPW
designator U?
1-Bit, 10 MHz, 2nd-Order Delta-Sigma Modulators with +/- 2.3 V Specified Input Range, -40 to 105 degC, 24-pin SOP (PW24), Green (RoHS & no Sb/Br); Manufacturer: Texas Instruments; PartNumber: ADS1209SPW; # Input Channels: 2; Analog Voltage AV/DD(Max)(V): 5.5; Analog Voltage AV/DD(Min)(V): 4.5; Architecture: Delta-Sigma, Modulator; Digital Supply(Min)(V): 2.7; ENOB(Bits): 14; INL(Max)(+/-LSB): 8; Resolution(Bits): 16; Sample Rate (max)(SPS): 40k; SFDR(dB): 86; SINAD(dB): 84; SNR(dB): 90; SubFamily: Precision ADC (<=10MSPS); DatasheetVersion: SBAS491; PackageVersion: 4040064-6/G, 02/2011; PackageReference: PW24; PackageDescription: 24-Pin Plastic Small Outline, Body 7.8 x 4.4 mm, Pitch 0.65 mm; Supplier 1: Digi-Key; Supplier Part Number 1: 296-31963-2-ND; Supplier 2: Digi-Key; Supplier Part Number 2: 296-31963-1-ND; Supplier 3: Digi-Key; Supplier Part Number 3: 296-31963-6-ND; Supplier 4: Mouser; Supplier Part Number 4: 595-TLC3574IDWR; Digital Supply(Max)(V): 5.5; Eco-Plan: Green (RoHS & no Sb/Br); Mounting Technology: Surface Mount; Code_JEDEC: MO-153; ComponentLink1Description: Manufacturer URL; ComponentLink1URL: http://www.ti.com/; ComponentLink2Description: Datasheet; ComponentLink2URL: http://www.ti.com/general/docs/lit/getliterature.tsp?genericPartNumber=ADS1209&fileType=pdf; ComponentLink3Description: Package Specification; ComponentLink3URL: http://www.ti.com/litv/pdf/mpds363
footprint TI-PW24_N (SOP, 24-Leads, Body 7.8x4.4mm, Pitch 0.65mm, IPC Medium Density)
footprint TI-PW24_L (SOP, 24-Leads, Body 7.8x4.4mm, Pitch 0.65mm, IPC High Density)
footprint TI-PW24_M (SOP, 24-Leads, Body 7.8x4.4mm, Pitch 0.65mm, IPC Low Density)
part A pins: 3 REFINA (in) "Reference voltage input for channel A", 4 NC "This pin is not internally connected", 5 CHA+ (in) "Fully differential noninverting analog input channel A", 6 CHA- (in) "Fully differential inverting analog input channel A", 7 CHB- (in) "Fully differential inverting analog input channel B", 8 CHB+ (in) "Fully differential noninverting analog input channel B", 9 NC "This pin is not internally connected", 10 REFINB (in) "Reference voltage input for channel B", 15 CLKSEL (in) "Clock select input. When this pin is low, an external clock source at CLKIN is used. When high, the internal RC oscillator is used as clock source.", 16 CLKIN (in) "External clock input. Must be tied to BVDD or BGND, if not used.", 19 CLKOUT (out) "Bit stream clock output", 20 OUTB (out) "Bit stream data output of channel B modulator", 21 OUTA (out) "Bit stream data output of channel A modulator", 23 REFOUT (out) "Internal reference voltage output, nominal: 2.5V. Decouple to AGND with a 0.1uF ceramic capacitor."
part B pins: 1 AVDD (power) "Analog power supply; nominal 5V. Decouple to AGND with a 0.1uF ceramic capacitor.", 2 AGND (power) "Analog ground. Connect to analog ground plane.", 11 AGND (power) "Analog ground. Connect to analog ground plane.", 12 AVDD (power) "Analog power supply; nominal 5V. Decouple to AGND with a 0.1uF ceramic capacitor.", 13 AVDD (power) "Analog power supply; nominal 5V. Decouple to AGND with a 0.1uF ceramic capacitor.", 14 AGND (power) "Analog ground. Connect to analog ground plane.", 17 BVDD (power) "I/O buffer power supply, nominal: 3V. Decouple to BGND with a 0.1uF ceramic capacitor", 18 BGND (power) "I/O buffer ground. Connect to digital ground plane", 22 AGND (power) "Analog ground. Connect to analog ground plane.", 24 AVDD (power) "Analog power supply, nominal: 5V. Decouple to AGND with a 0.1uF ceramic capacitor."